# EAGLE library part SPRING_BTB_8POS_FEMALE (library thanics_robotics)
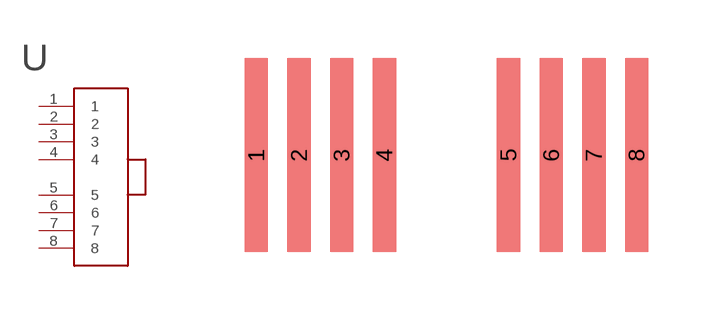
[diagram p28: symbol with the pads of SPRING_BTB_8POS_FEMALE; footprint SPRING_BTB_8POS_FEMALE]

Designator prefix -

## SPRING_BTB_8POS_FEMALE  [SPRING_BTB_8POS_FEMALE]
1  1
2  2
3  3
4  4
5  5
6  6
7  7
8  8

## Footprint SPRING_BTB_8POS_FEMALE (pad centres in mm)
smd 0.6 x 5: 1 -4.9,0; 2 -3.8,0; 3 -2.7,0; 4 -1.6,0; 5 1.6,0; 6 2.7,0; 7 3.8,0; 8 4.9,0